# Altium schematic symbol library 0451P750MRL.SchLib: 2 symbols
Pins are listed as number, name and electrical type; pins without a type are passive.

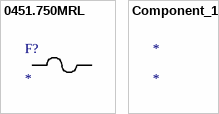
[diagram p0: symbols 0451.750MRL to Component_1]

## 0451.750MRL
designator F?
No Description Available; Mfr_Name: Littelfuse Inc
footprint 0451Series_LTF
pins: 1, 2

## Component_1
designator *